# Altium schematic symbol library smart.SchLib: 1 symbol
Pins are listed as number, name and electrical type; pins without a type are passive.

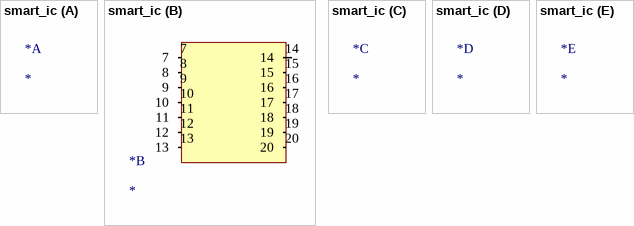
[diagram p0: symbol smart_ic]

## smart_ic
designator *
part B pins: 7, 8, 9, 10, 11, 12, 13, 14, 15, 16, 17, 18, 19, 20